# Altium footprint library Sch1-pcblib.PcbLib: 19 footprints (part 2 of 2)
Each footprint in its own frame and in the unit in brackets; x right, y up, seen from the top. Pads: shape width x height; smd on the part's side, far side on the other; paste and mask are expansions set on the pad; w line width, h text height; cw(c..) or ccw(c..) is an arc to the next point about the centre after c.
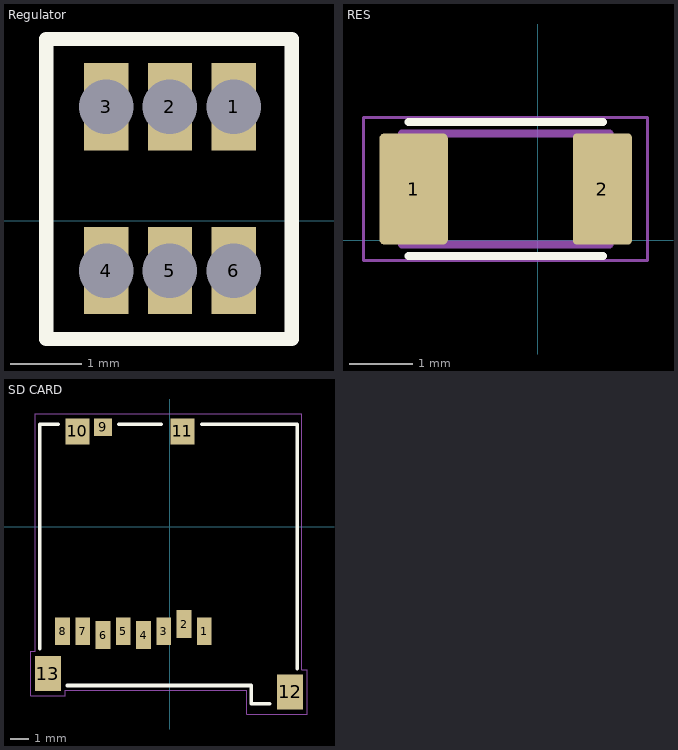
[diagram p1: the footprints below, top view; thin cyan lines are the x and y axes]

## Regulator [mm]
pads (6):
  rect 0.62x1.22 hole 0.762: 1(-2.336,1.591) 2(-3.225,1.591) 3(-4.114,1.591) 4(-4.114,-0.695) 5(-3.225,-0.695) 6(-2.336,-0.695)
Top Overlay:
  lines w0.2: -4.953,-1.651 -4.953,2.54 -1.524,2.54 -1.524,-1.651 -2.381,-1.651 -4.096,-1.651 -4.953,-1.651
3D body "LTC3429BES6#TRPBF.STEP": height 1, standoff 0, extent -4.675,-0.952 -1.775,1.848

## RES [mm]
pads (2):
  rrect14% 1.09x1.77 smd: 1(-1.977,0.816)
  rrect14% 0.94x1.77 smd: 2(1.028,0.816)
Top Overlay:
  lines w0.127: -2.062,-0.249 1.038,-0.249 ; -2.062,1.881 1.038,1.881
Mechanical 13:
  lines w0.127: -2.162,-0.064 1.138,-0.064 1.138,1.696 -2.162,1.696 -2.162,-0.064
Mechanical 15:
  lines w0.05: -2.772,-0.324 1.748,-0.324 1.748,1.956 -2.772,1.956 -2.772,-0.324
3D body "1-1879462-6.stp": height 0.53, standoff -0.03, extent -2.058,0.114 1.042,1.664

## SD CARD [mm]
pads (13):
  rect 0.8x1.5 smd: 1(1.879,-5.697) 2(0.779,-5.297) 3(-0.321,-5.697) 4(-1.421,-5.897) 5(-2.521,-5.697) 6(-3.621,-5.897) 7(-4.721,-5.697) 8(-5.821,-5.697)
  rect 1x0.95 smd: 9(-3.621,5.388)
  rect 1.3x1.4 smd: 10(-5.011,5.163) 11(0.689,5.163)
  rect 1.4x1.9 smd: 12(6.539,-8.987) 13(-6.611,-7.987)
Top Overlay:
  lines w0.2: -7.061,-6.637 -7.061,5.563 -6.061,5.563 ; -5.561,-8.637 4.439,-8.637 4.439,-9.637 5.439,-9.637 ; -2.761,5.563 -0.461,5.563 ; 1.739,5.563 6.939,5.563 6.939,-7.737
Mechanical 15:
  lines w0.05: -7.561,-9.187 -7.561,-6.787 -7.311,-6.787 -7.311,6.113 7.189,6.113 7.189,-7.787 7.489,-7.787 7.489,-10.187 4.189,-10.187 4.189,-8.887 -5.661,-8.887 -5.661,-9.187 -7.561,-9.187
3D body "step_temp.STEP": height 1.95, standoff 0, extent -7.111,-9.637 6.989,5.663